# Altium schematic symbol library LM386.SchLib: 1 symbol
Pins are listed as number, name and electrical type; pins without a type are passive.

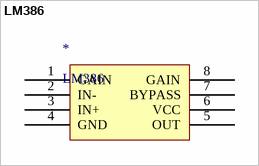
[diagram p0: symbol LM386]

## LM386
designator *
pins: 1 GAIN, 2 IN-, 3 IN+, 4 GND, 5 OUT, 6 VCC, 7 BYPASS, 8 GAIN